# Altium footprint library ABM8W-16P0000MHZ-8-K1Z-T3.PcbLib: 1 footprints
Each footprint in its own frame and in the unit in brackets; x right, y up, seen from the top. Pads: shape width x height; smd on the part's side, far side on the other; paste and mask are expansions set on the pad; w line width, h text height; cw(c..) or ccw(c..) is an arc to the next point about the centre after c.
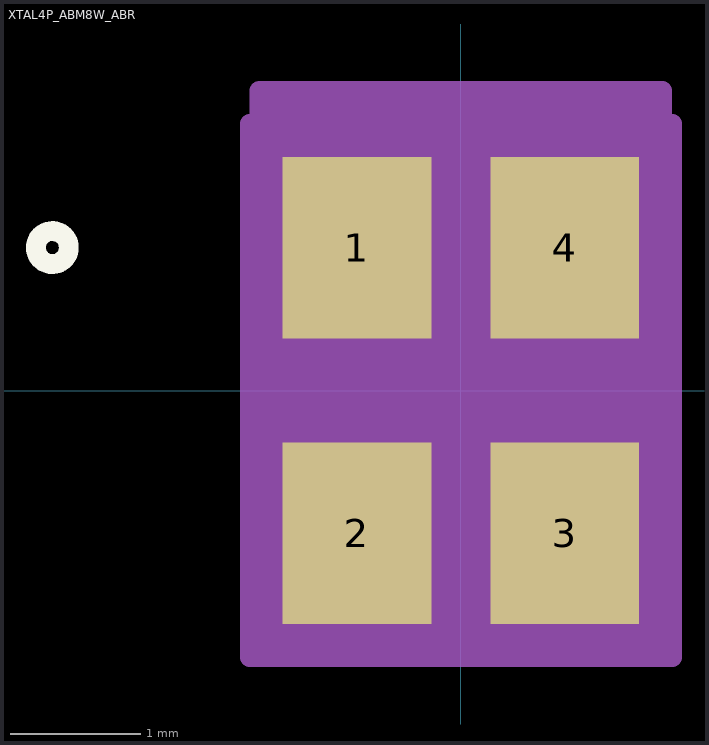
[diagram p0: the footprint, top view; thin cyan lines are the x and y axes]

## XTAL4P_ABM8W_ABR [mm]
pads (4):
  rect 1.143x1.397 smd paste+0 mask+0: 1(-0.8,1.1) 2(-0.8,-1.1) 3(0.8,-1.1) 4(0.8,1.1)
Top Overlay:
  circle w0.152: c-3.145,1.1 r0.127
Mechanical 13:
  circle w0: c-0.229,1.1 r0.076
  lines w0: -0.305,1.651 ccw(c0,1.651) 0.305,1.651
  lines w0.025: -1.295,-1.651 1.295,-1.651 1.295,1.651 -1.295,1.651 -1.295,-1.651
Mechanical 15:
  region: -1.549,-2.053 -1.626,-2.053 -1.626,2.053 -1.549,2.053 -1.549,2.307 1.549,2.307 1.549,2.053 1.626,2.053 1.626,-2.053 1.549,-2.053
  lines w0.152: -1.549,-2.053 -1.626,-2.053 -1.626,2.053 -1.549,2.053 -1.549,2.307 1.549,2.307 1.549,2.053 1.626,2.053 1.626,-2.053 1.549,-2.053 ; -1.549,-2.053 -1.549,-2.053 ; -1.549,-2.053 1.549,-2.053 ; 1.549,-2.053 1.549,-2.053
3D body "XTAL4P_ABM8W_ABR.step": height 0.81, standoff 0, extent -1.295,-1.651 1.295,1.651